# EAGLE library part CAT22C10LI-30 (library Catalyst_Semiconductor_By_element14_Batch_1)
256-Bit Nonvolatile CMOS Static RAM
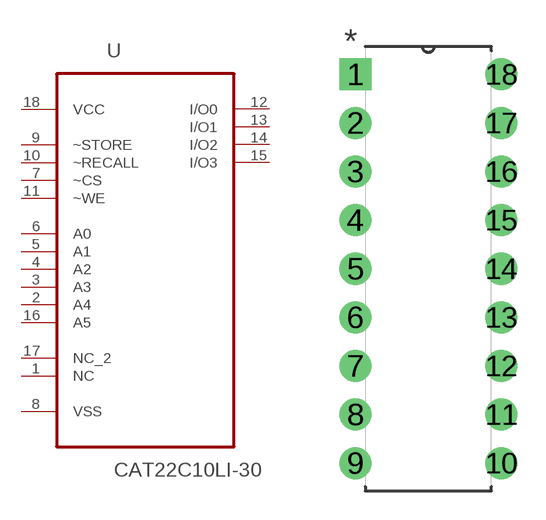
[diagram p0: symbol with the pads of DIP254P762X533-18; footprint DIP254P762X533-18]

Designator prefix U

## CAT22C10LI-30 (MPN: CAT22C10LI-30; OC_FARNELL: -; OC_NEWARK: 06R0465; PACKAGE: PDIP-18; SUPPLIER: CATALYST SEMICONDUCTOR)  [DIP254P762X533-18]
1  NC  nc
2  A4  in
3  A3  in
4  A2  in
5  A1  in
6  A0  in
7  ~CS  in
8  VSS  pwr
9  ~STORE  pwr
10  ~RECALL  in
11  ~WE  in
12  I/O0
13  I/O1
14  I/O2
15  I/O3
16  A5  in
17  NC_2  nc
18  VCC  pwr

## Footprint DIP254P762X533-18 (pad centres in mm)
drill 1.118 square: 1 -7.62,20.32
drill 1.118: 2 -7.62,17.78; 3 -7.62,15.24; 4 -7.62,12.7; 5 -7.62,10.16; 6 -7.62,7.62; 7 -7.62,5.08; 8 -7.62,2.54; 9 -7.62,0; 10 0,0; 11 0,2.54; 12 0,5.08; 13 0,7.62; 14 0,10.16; 15 0,12.7; 16 0,15.24; 17 0,17.78; 18 0,20.32